# EAGLE library part WIZFI210/220 (library WizFi210)
WIZnet WizFi210 / 220 - Ultra Low Power “Serial to WiFi” Module
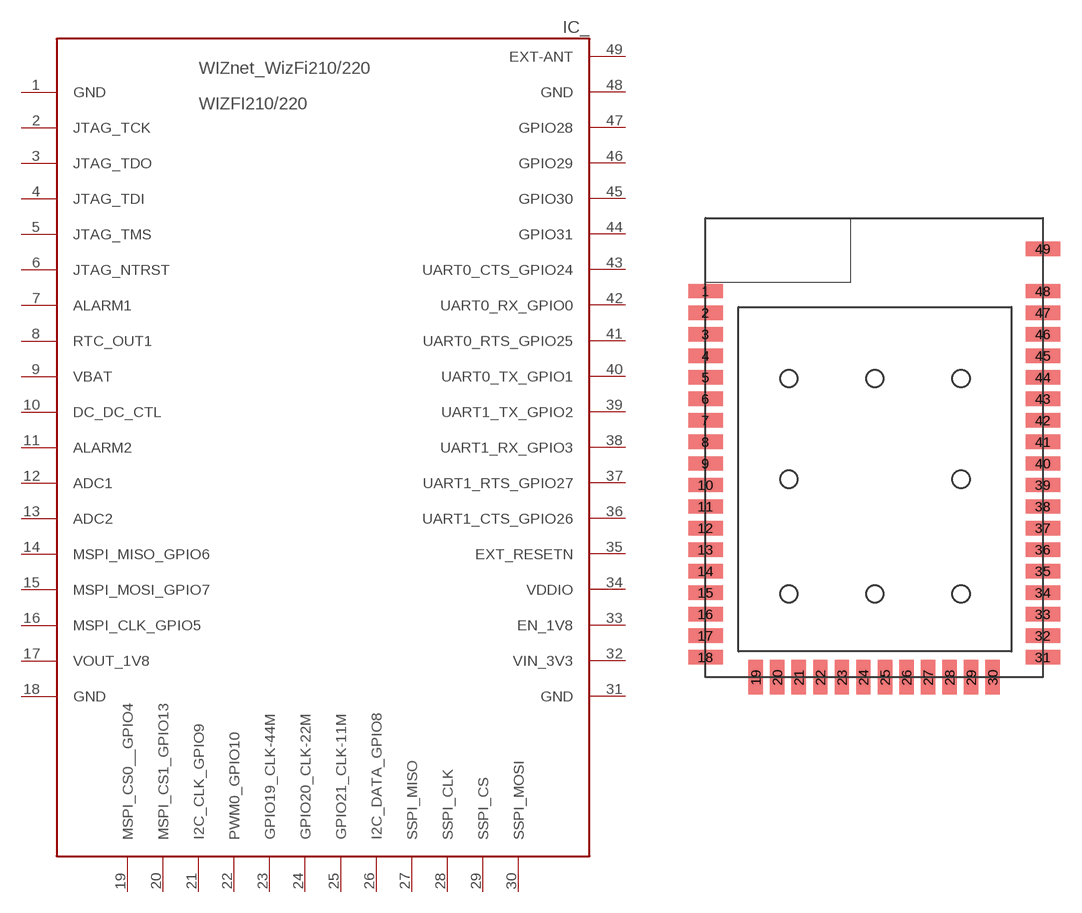
[diagram p0: symbol with the pads of WIZFI210/220; footprint WIZFI210/220]

Designator prefix IC_

## WIZFI210/220  [WIZFI210/220]
1  GND  pwr
2  JTAG_TCK  in
3  JTAG_TDO  out
4  JTAG_TDI  in
5  JTAG_TMS  in
6  JTAG_NTRST  in
7  ALARM1  in
8  RTC_OUT1  out
9  VBAT  pwr
10  DC_DC_CTL  out
11  ALARM2  in
12  ADC1  in
13  ADC2  in
14  MSPI_MISO_GPIO6  in
15  MSPI_MOSI_GPIO7  out
16  MSPI_CLK_GPIO5
17  VOUT_1V8
18  GND  pwr
19  MSPI_CS0__GPIO4  out
20  MSPI_CS1_GPIO13  out
21  I2C_CLK_GPIO9
22  PWM0_GPIO10  out
23  GPIO19_CLK-44M  in
24  GPIO20_CLK-22M  in
25  GPIO21_CLK-11M  in
26  I2C_DATA_GPIO8
27  SSPI_MISO  out
28  SSPI_CLK  in
29  SSPI_CS  in
30  SSPI_MOSI  in
31  GND  pwr
32  VIN_3V3  pwr
33  EN_1V8  in
34  VDDIO  pwr
35  EXT_RESETN
36  UART1_CTS_GPIO26  in
37  UART1_RTS_GPIO27  out
38  UART1_RX_GPIO3  in
39  UART1_TX_GPIO2  out
40  UART0_TX_GPIO1  out
41  UART0_RTS_GPIO25  out
42  UART0_RX_GPIO0  in
43  UART0_CTS_GPIO24  in
44  GPIO31
45  GPIO30
46  GPIO29
47  GPIO28
48  GND  pwr
49  EXT-ANT

## Footprint WIZFI210/220 (pad centres in mm)
smd 2.4 x 1: 1 1.2,28.1; 2 1.2,26.6; 3 1.2,25.1; 4 1.2,23.6; 5 1.2,22.1; 6 1.2,20.6; 7 1.2,19.1; 8 1.2,17.6; 9 1.2,16.1; 10 1.2,14.6; 11 1.2,13.1; 12 1.2,11.6; 13 1.2,10.1; 14 1.2,8.6; 15 1.2,7.1; 16 1.2,5.6; 17 1.2,4.1; 18 1.2,2.6; 31 24.7,2.6; 32 24.7,4.1; 33 24.7,5.6; 34 24.7,7.1; 35 24.7,8.6; 36 24.7,10.1; 37 24.7,11.6; 38 24.7,13.1; 39 24.7,14.6; 40 24.7,16.1; 41 24.7,17.6; 42 24.7,19.1; 43 24.7,20.6; 44 24.7,22.1; 45 24.7,23.6; 46 24.7,25.1; 47 24.7,26.6; 48 24.7,28.1; 49 24.7,31.05
smd 1 x 2.4: 19 4.7,1.2; 20 6.2,1.2; 21 7.7,1.2; 22 9.2,1.2; 23 10.7,1.2; 24 12.2,1.2; 25 13.7,1.2; 26 15.2,1.2; 27 16.7,1.2; 28 18.2,1.2; 29 19.7,1.2; 30 21.2,1.2